# Altium footprint library lib_coilcraft.PcbLib: 2 footprints
Each footprint in its own frame and in the unit in brackets; x right, y up, seen from the top. Pads: shape width x height; smd on the part's side, far side on the other; paste and mask are expansions set on the pad; w line width, h text height; cw(c..) or ccw(c..) is an arc to the next point about the centre after c.
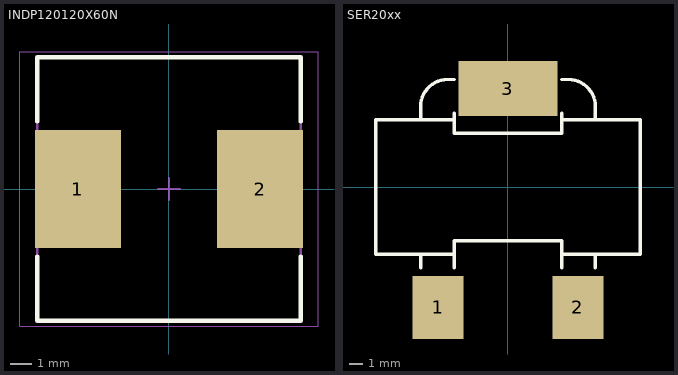
[diagram p0: the footprints below, top view; thin cyan lines are the x and y axes]

## INDP120120X60N [mm] "Precision Wire Wound Inductor, 2-Leads, Body 12,00x12,00mm, IPC Medium Density"
height 6
pads (2):
  rect 4x5.5 smd: 1(-4.25,0) 2(4.25,0)
Top Overlay:
  lines w0.2: -6.15,-3.15 -6.15,-6.15 6.15,-6.15 6.15,-3.15 ; -6.15,3.15 -6.15,6.15 6.15,6.15 6.15,3.15
Mechanical 13:
  lines w0.1: -6.15,-6.15 -6.15,6.15 6.15,6.15 6.15,-6.15 -6.15,-6.15
Mechanical 15:
  lines w0.05: -6.975,-6.4 -6.975,6.4 6.975,6.4 6.975,-6.4 -6.975,-6.4
  lines w0.1: -0.5,0 0.5,0 ; 0,-0.5 0,0.5
3D body "Coilcraft-MSS1260.step": height 6.2, standoff -0.04, extent -6.15,-6.15 6.15,6.15

## SER20xx [mm]
pads (3):
  rect 3.81x4.7 smd: 1(-5.205,-8.96) 2(5.205,-8.96)
  rect 7.37x4.06 smd: 3(0,7.33)
Top Overlay:
  lines w0.254: -6.5,-6 -6.5,-5 ; -6.5,5 -6.5,6 cw(c-4.5,6) -4.5,8 -4,8 ; -4,-6 -4,-5 ; -4,5.5 -4,5 ; 4,8 4.5,8 cw(c4.5,6) 6.5,6 6.5,5 ; 4,-6 4,-5 ; 4,5.5 4,5 ; 6.5,-6 6.5,-5 ; -4,-5 -9.845,-5 -9.845,0 -9.845,5 -4,5 ; -4,-5 -4,-4 0,-4 4,-4 4,-5 ; -4,5 -4,4 0,4 4,4 4,5 ; 4,-5 9.845,-5 9.845,0 9.845,5 4,5
3D body "Coilcraft-SER2011.step": height 10.42, standoff -0.25, extent -9.845,-10.46 9.845,8.24